# EAGLE library part USB3-A-TH-FLAT-SIDE (library USB Connector)
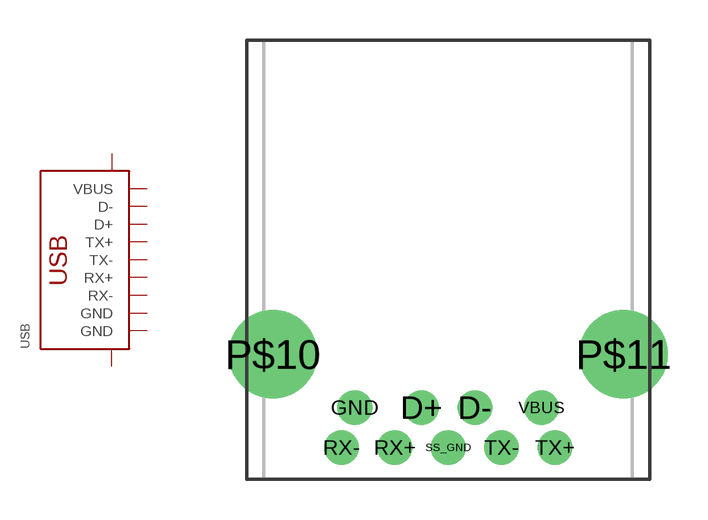
[diagram p10: symbol with the pads of USB3-A-TH-FLAT-SIDE; footprint USB3-A-TH-FLAT-SIDE]

Designator prefix USB

## USB3-A-TH-FLAT-SIDE  [USB3-A-TH-FLAT-SIDE]
D+  D+
D-  D-
GND  GND
P$10  SHIELD
P$11  SHIELD
RX+  RX+
RX-  RX-
SS_GND  GND
TX+  TX+
TX-  TX-
VBUS  VBUS

## Footprint USB3-A-TH-FLAT-SIDE (pad centres in mm)
WR-COM USB 3.0 HORIZONTAL TYPE A
drill 0.7 pad 1.3: D+ -1,1.5; D- 1,1.5; GND -3.5,1.5; RX+ -2,0; RX- -4,0; SS_GND 0,0; TX+ 4,0; TX- 2,0; VBUS 3.5,1.5
drill 2.3 pad 3.3: P$10 -6.57,3.5; P$11 6.57,3.5